# Altium schematic symbol library SCH - POWER - SWITCHMODE - TI TPS62170-Q1DSG.SchLib: 1 symbol
Pins are listed as number, name and electrical type; pins without a type are passive.

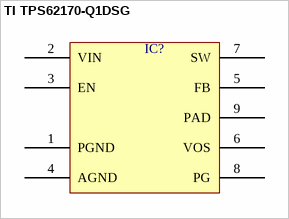
[diagram p0: symbol TI TPS62170-Q1DSG]

## TI TPS62170-Q1DSG
designator IC?  (value not drawn)
pins: 1 PGND, 2 VIN, 3 EN, 4 AGND, 5 FB, 6 VOS, 7 SW, 8 PG, 9 PAD